# EAGLE library part MAX5400 (library X893)
256-Tap SOT-PoT, Low-Drift Digital Potentiometers in SOT23 http://www.maximintegrated.com/datasheet/index.mvp/id/2402
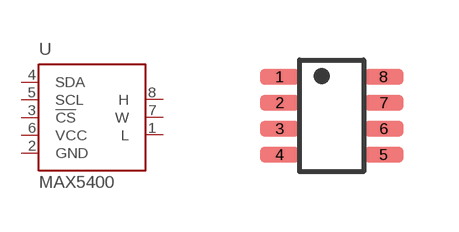
[diagram p192: symbol with the pads of SOT23-8; footprint SOT23-8]

Designator prefix U

## MAX5400  [SOT23-8]
1  L
2  GND
3  !CS
4  SDA
5  SCL
6  VCC
7  W
8  H

## Footprint SOT23-8 (pad centres in mm)
smd 1 x 0.4: 1 -1.3,0.975; 2 -1.3,0.325; 3 -1.3,-0.325; 4 -1.3,-0.975; 5 1.3,-0.975; 6 1.3,-0.325; 7 1.3,0.325; 8 1.3,0.975